# Altium footprint library PCB - CONNECTOR - HARWIN - HARWIN M20-7820645.PcbLib: 1 footprints
Each footprint in its own frame and in the unit in brackets; x right, y up, seen from the top. Pads: shape width x height; smd on the part's side, far side on the other; paste and mask are expansions set on the pad; w line width, h text height; cw(c..) or ccw(c..) is an arc to the next point about the centre after c.
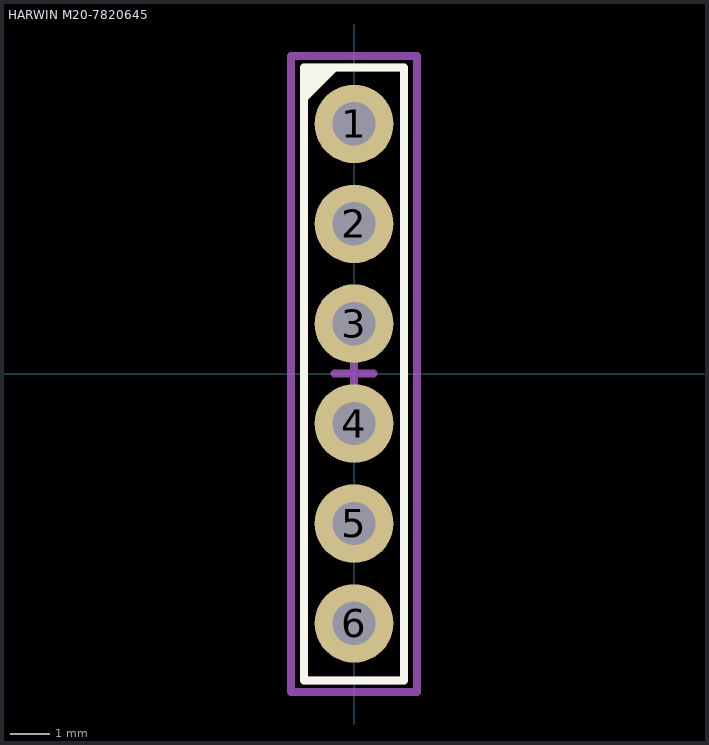
[diagram p0: the footprint, top view; thin cyan lines are the x and y axes]

## HARWIN M20-7820645 [mm] "2.54mm DIL PC TAIL PIN HEADER ASSEMBLY"
height 5
pads (6):
  round 2 hole 1.1: 1(0,6.35) 2(0,3.81) 3(0,1.27) 4(0,-1.27) 5(0,-3.81) 6(0,-6.35)
Top Overlay:
  region: -1.23,7.81 -1.23,6.91 -0.33,7.81
  lines w0.2: -1.27,-7.8 1.27,-7.8 1.27,7.78 -1.27,7.78 -1.27,-7.8
Top Assembly:
  lines w0.2: -0.5,0 0.5,0 ; 0,-0.5 0,0.5 ; -1.27,-7.8 1.27,-7.8 1.27,7.78 -1.27,7.78 -1.27,-7.8
Top Courtyard (Mech15):
  lines w0.2: -1.6,-8.1 1.6,-8.1 1.6,8.08 -1.6,8.08 -1.6,-8.1
3D body "M20-7820642.step": height 8.5, standoff -3, extent -1.25,-7.82 1.25,7.82